# EAGLE library part DS1307 (library adafruit)
DS1307 Real time clock (RTC) with battery backup ability. Talk to it via i2c
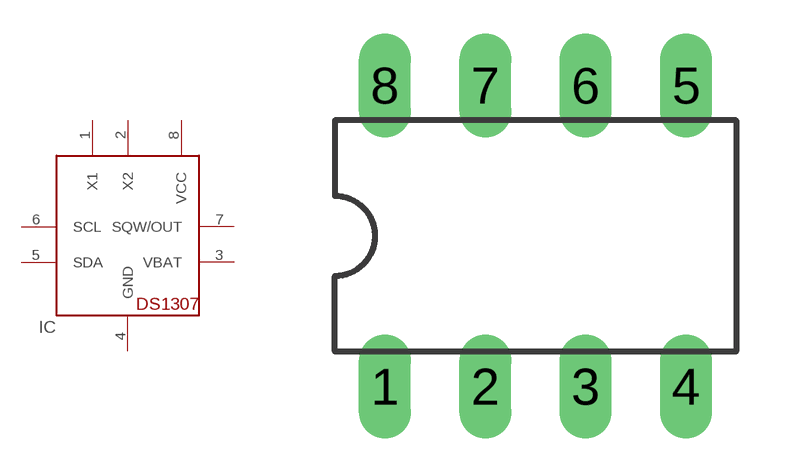
[diagram p15: symbol with the pads of DIL08; footprint DIL08]

Designator prefix IC

## DS1307  [DIL08]
1  X1  pas
2  X2  pas
3  VBAT  pwr
4  GND  pwr
5  SDA
6  SCL
7  SQW/OUT
8  VCC  pwr

## Footprint DIL08 (pad centres in mm)
Dual In Line Package
drill 0.813 long: 1 -3.81,-3.81; 2 -1.27,-3.81; 3 1.27,-3.81; 4 3.81,-3.81; 5 3.81,3.81; 6 1.27,3.81; 7 -1.27,3.81; 8 -3.81,3.81